# Altium footprint library CAPC1608-0603.PcbLib: 1 footprints
Each footprint in its own frame and in the unit in brackets; x right, y up, seen from the top. Pads: shape width x height; smd on the part's side, far side on the other; paste and mask are expansions set on the pad; w line width, h text height; cw(c..) or ccw(c..) is an arc to the next point about the centre after c.
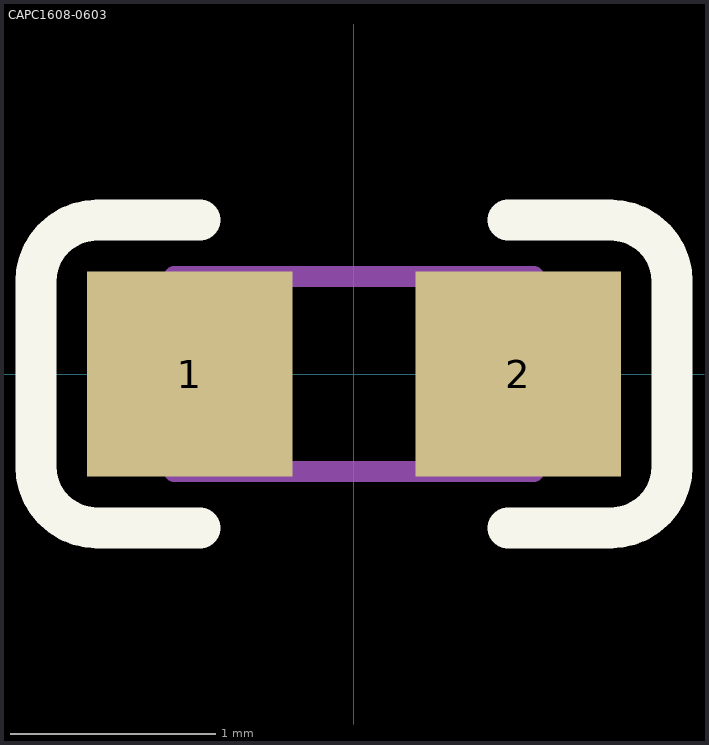
[diagram p0: the footprint, top view; thin cyan lines are the x and y axes]

## CAPC1608-0603 [mm] "Chip Capacitor, Body 1.6x0.8mm, IPC Medium Density"
height 0.85
pads (2):
  rect 1x1 smd: 1(-0.8,0) 2(0.8,0)
Top Overlay:
  lines w0.2: -0.75,-0.75 -1.25,-0.75 cw(c-1.25,-0.45) -1.55,-0.45 -1.55,0.45 cw(c-1.25,0.45) -1.25,0.75 -0.75,0.75 ; 0.75,-0.75 1.25,-0.75 ccw(c1.25,-0.45) 1.55,-0.45 1.55,0.45 ccw(c1.25,0.45) 1.25,0.75 0.75,0.75
Mechanical 13:
  lines w0.1: -0.875,-0.475 -0.875,0.475 0.875,0.475 0.875,-0.475 -0.875,-0.475
3D body: height 0.85, standoff 0, extent -0.875,-0.475 0.875,0.475